# EAGLE library part LV-MAXSONAR-EZ (library Comm)
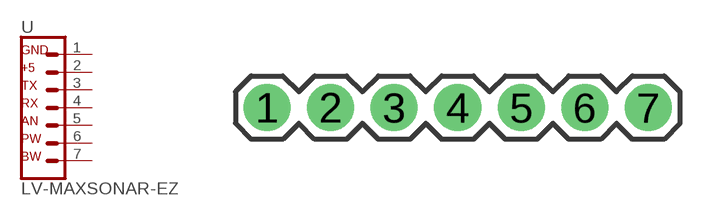
[diagram p0: symbol with the pads of 1X07; footprint 1X07]

Designator prefix -

## LV-MAXSONAR-EZ  [1X07]
1  GND  pas
2  +5  pas
3  TX  pas
4  RX  pas
5  AN  pas
6  PW  pas
7  BW  pas

## Footprint 1X07 (pad centres in mm)
Plated Through Hole -7 Pin Specifications: Pin count:7 Pin pitch:0.1" Example device(s): CONN_07
drill 1.016 pad 1.88: 1 0,0; 2 2.54,0; 3 5.08,0; 4 7.62,0; 5 10.16,0; 6 12.7,0; 7 15.24,0